# EAGLE library part DB15 (library rpilib)
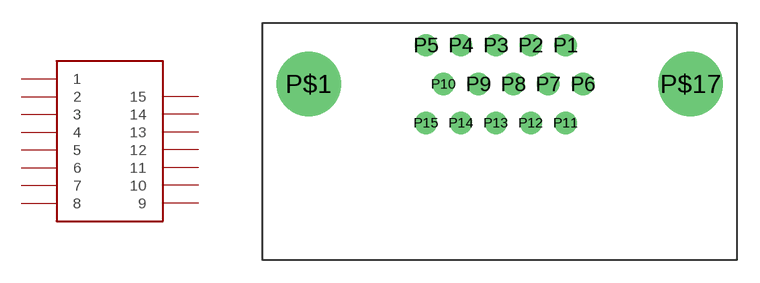
[diagram p0: symbol with the pads of DB15R; footprint DB15R]

Designator prefix J

## DB15  [DB15R]
P1  1
P2  2
P3  3
P4  4
P5  5
P6  6
P7  7
P8  8
P9  9
P10  10
P11  11
P12  12
P13  13
P14  14
P15  15

## Footprint DB15R (pad centres in mm)
drill 0.95: P1 4.323,2.54; P2 2.038,2.54; P3 -0.247,2.54; P4 -2.532,2.54; P5 -4.817,2.54; P6 5.465,0; P7 3.18,0; P8 0.895,0; P9 -1.389,0; P10 -3.675,0; P11 4.323,-2.54; P12 2.038,-2.54; P13 -0.247,-2.54; P14 -2.532,-2.54; P15 -4.817,-2.54
drill 3.2: P$1 -12.497,0; P$17 12.493,0